# EAGLE library part FH12-40S-0.5SH_55_ (library SamacSys_Parts)
FFC,0.5mm Pitch,Bottom Contact,40way Hirose FH12 Series 0.5mm Pitch 40 Way 1 Row Right Angle SMT Female FPC Connector, Gold Plated Contacts Source: Datasheet <https://datasheet.datasheetarchive.com/originals/distributors/SFDatasheet-1/sf-00023459.pdf>
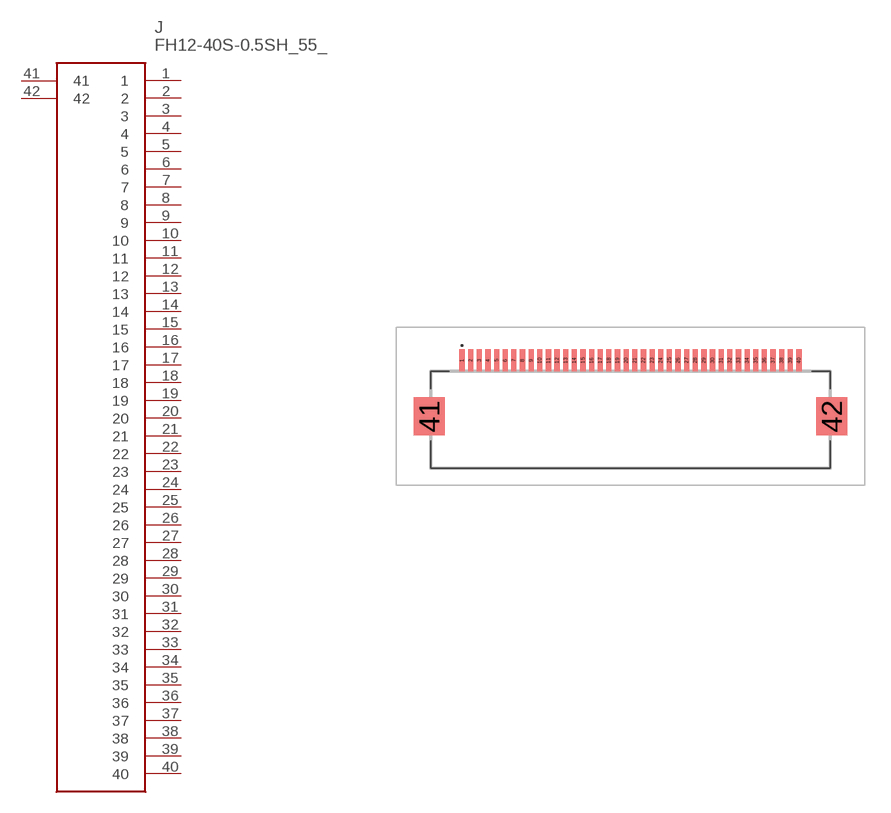
[diagram p25: symbol with the pads of FH1240S05SH55; footprint FH1240S05SH55]

Designator prefix J

## FH12-40S-0.5SH_55_ (DESCRIPTION: FFC,0.5mm Pitch,Bottom Contact,40way Hirose FH12 Series 0.5mm Pitch 40 Way 1 Row Right Angle SMT Female FPC Connector, Gold Plated Contacts; HEIGHT: 2mm; MANUFACTURER_NAME: Hirose; MANUFACTURER_PART_NUMBER: FH12-40S-0.5SH(55); MOUSER_PART_NUMBER: 798-FH12-40S-0.5SH55; MOUSER_PRICE-STOCK: https://www.mouser.co.uk/ProductDetail/Hirose-Connector/FH12-40S-0.5SH55?qs=Ux3WWAnHpjCB5TtHwQqTgA%3D%3D)  [FH1240S05SH55]
1  1
2  2
3  3
4  4
5  5
6  6
7  7
8  8
9  9
10  10
11  11
12  12
13  13
14  14
15  15
16  16
17  17
18  18
19  19
20  20
21  21
22  22
23  23
24  24
25  25
26  26
27  27
28  28
29  29
30  30
31  31
32  32
33  33
34  34
35  35
36  36
37  37
38  38
39  39
40  40
41  41
42  42

## FH12-40S-0.5SH_55_FH1240S05SH55-REV  [FH1240S05SH55]
1  40
2  39
3  38
4  37
5  36
6  35
7  34
8  33
9  32
10  31
11  30
12  29
13  28
14  27
15  26
16  25
17  24
18  23
19  22
20  21
21  20
22  19
23  18
24  17
25  16
26  15
27  14
28  13
29  12
30  11
31  10
32  9
33  8
34  7
35  6
36  5
37  4
38  3
39  2
40  1
41  41
42  42

## Footprint FH1240S05SH55 (pad centres in mm)
FH12-40S-0.5SH(55)
smd 0.3 x 1.3: 1 -9.75,2.675; 2 -9.25,2.675; 3 -8.75,2.675; 4 -8.25,2.675; 5 -7.75,2.675; 6 -7.25,2.675; 7 -6.75,2.675; 8 -6.25,2.675; 9 -5.75,2.675; 10 -5.25,2.675; 11 -4.75,2.675; 12 -4.25,2.675; 13 -3.75,2.675; 14 -3.25,2.675; 15 -2.75,2.675; 16 -2.25,2.675; 17 -1.75,2.675; 18 -1.25,2.675; 19 -0.75,2.675; 20 -0.25,2.675; 21 0.25,2.675; 22 0.75,2.675; 23 1.25,2.675; 24 1.75,2.675; 25 2.25,2.675; 26 2.75,2.675; 27 3.25,2.675; 28 3.75,2.675; 29 4.25,2.675; 30 4.75,2.675; 31 5.25,2.675; 32 5.75,2.675; 33 6.25,2.675; 34 6.75,2.675; 35 7.25,2.675; 36 7.75,2.675; 37 8.25,2.675; 38 8.75,2.675; 39 9.25,2.675; 40 9.75,2.675
smd 1.8 x 2.2: 41 -11.65,-0.575; 42 11.65,-0.575